# Altium footprint library buttons.PcbLib: 1 footprints
Each footprint in its own frame and in the unit in brackets; x right, y up, seen from the top. Pads: shape width x height; smd on the part's side, far side on the other; paste and mask are expansions set on the pad; w line width, h text height; cw(c..) or ccw(c..) is an arc to the next point about the centre after c.
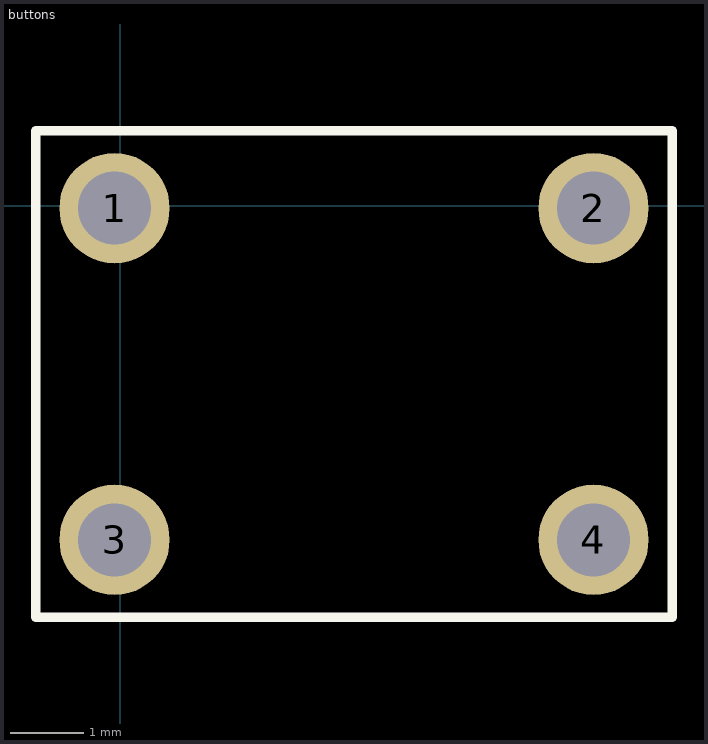
[diagram p0: the footprint, top view; thin cyan lines are the x and y axes]

## buttons [mm]
pads (4):
  round 1.498 hole 0.99: 1(-0.075,-0.036) 2(6.425,-0.036) 3(-0.075,-4.536) 4(6.425,-4.536)
Top Overlay:
  lines w0.127: -1.143,-5.588 4.493,-5.588 7.493,-5.588 7.493,1.016 -1.143,1.016 -1.143,-5.588